# EAGLE library part MAX3221 (library Taylor)
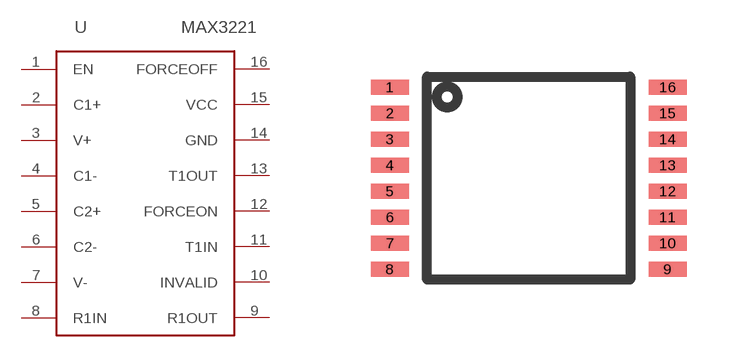
[diagram p2: symbol with the pads of SSOP-16; footprint SSOP-16]

Designator prefix -

## MAX3221  [SSOP-16]
1  EN
2  C1+
3  V+
4  C1-
5  C2+
6  C2-
7  V-
8  R1IN
9  R1OUT
10  INVALID
11  T1IN
12  FORCEON
13  T1OUT
14  GND
15  VCC
16  FORCEOFF

## Footprint SSOP-16 (pad centres in mm)
smd 0.95 x 0.38: 1 -3.475,2.275; 2 -3.475,1.625; 3 -3.475,0.975; 4 -3.475,0.325; 5 -3.475,-0.325; 6 -3.475,-0.975; 7 -3.475,-1.625; 8 -3.475,-2.275; 9 3.475,-2.275; 10 3.475,-1.625; 11 3.475,-0.975; 12 3.475,-0.325; 13 3.475,0.325; 14 3.475,0.975; 15 3.475,1.625; 16 3.475,2.275